# EAGLE library part MODUL_POLOLU (library TB6612FNG)
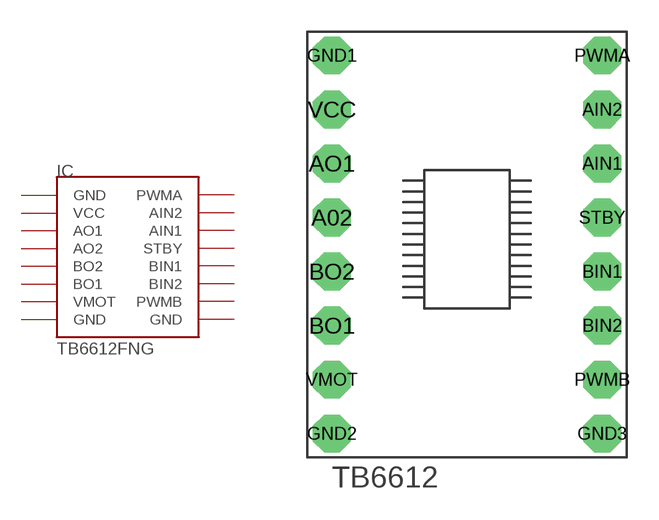
[diagram p0: symbol with the pads of MODUL_POLOLU; footprint MODUL_POLOLU]

Designator prefix IC

## MODUL_POLOLU  [MODUL_POLOLU]
A02  AO2
AIN1  AIN1
AIN2  AIN2
AO1  AO1
BIN1  BIN1
BIN2  BIN2
BO1  BO1
BO2  BO2
GND1  GND
GND2  GND
GND3  GND
PWMA  PWMA
PWMB  PWMB
STBY  STBY
VCC  VCC
VMOT  VMOT

## Footprint MODUL_POLOLU (pad centres in mm)
drill 1 pad 1.778 octagon: A02 -6.35,1.27; AIN1 6.35,3.81; AIN2 6.35,6.35; AO1 -6.35,3.81; BIN1 6.35,-1.27; BIN2 6.35,-3.81; BO1 -6.35,-3.81; BO2 -6.35,-1.27; GND1 -6.35,8.89; GND2 -6.35,-8.89; GND3 6.35,-8.89; PWMA 6.35,8.89; PWMB 6.35,-6.35; STBY 6.35,1.27; VCC -6.35,6.35; VMOT -6.35,-6.35